# Altium footprint library SDR_Module.PcbLib: 1 footprints
Each footprint in its own frame and in the unit in brackets; x right, y up, seen from the top. Pads: shape width x height; smd on the part's side, far side on the other; paste and mask are expansions set on the pad; w line width, h text height; cw(c..) or ccw(c..) is an arc to the next point about the centre after c.
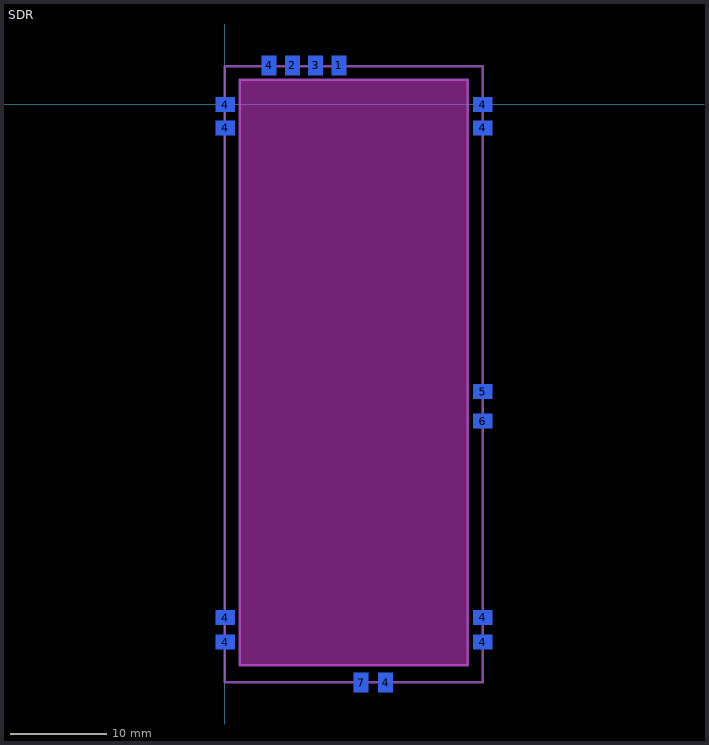
[diagram p0: the footprint, top view; thin cyan lines are the x and y axes]

## SDR [mm]
pads (16):
  rect 1.5x2 smd far side: 1(11.792,4.027) 2(6.972,4.027) 3(9.382,4.027) 4(4.562,4.027) 4(16.615,-59.816) 7(14.085,-59.816)
  rect 2x1.5 smd far side: 4(0.037,-55.626) 4(0.037,-53.105) 4(0.037,-2.429) 4(0.037,-0.019) 4(26.67,-55.626) 4(26.67,-53.086) 4(26.67,-2.423) 4(26.67,-0.013) 5(26.67,-29.718) 6(26.67,-32.766)
Bottom Overlay:
  lines w0.5: -0.021,-56.769 -0.021,-59.754 12.954,-59.754 ; -0.003,1.397 -0.003,4.064 3.302,4.064 ; 0,-51.562 0,-3.683 ; 13.208,3.958 26.664,3.958 26.664,1.397 ; 18.288,-59.8 26.685,-59.8 26.685,-56.896 ; 26.622,-3.791 26.661,-28.291 ; 26.673,-51.562 26.673,-34.163
Keep-Out Layer:
  board cut-out: 25.146,-58.039 25.146,2.54 1.524,2.54 1.524,-58.039
Mechanical 13:
  lines w0.254: -0.017,-59.791 26.653,-59.791 26.653,3.963 -0.017,3.963 -0.017,-59.791 ; 1.524,-58.039 25.146,-58.039 25.146,2.54 1.524,2.54 1.524,-58.039